# EAGLE library part TPS768*QPWP (library NewSDR)
Texas Instruments Faast Transient Response, 1-A Low-Dropout Voltage Regulators - 20-Pin PWP Package
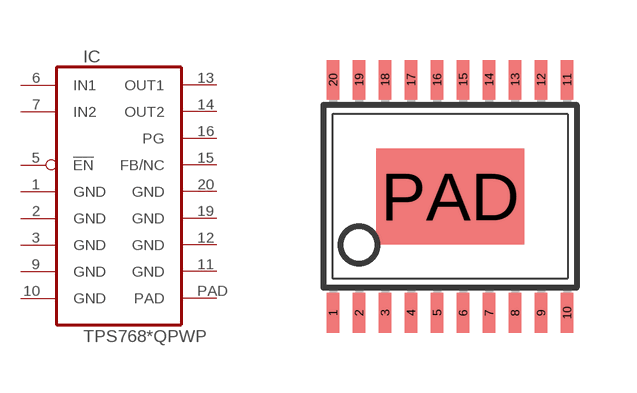
[diagram p65: symbol with the pads of HTSSOP20; footprint HTSSOP20]

Designator prefix IC

## TPS76818QPWP, TPS76833QPWP  [HTSSOP20]
1  GND  pwr
2  GND  pwr
3  GND  pwr
5  !EN  in
6  IN1  pwr
7  IN2  pwr
9  GND  pwr
10  GND  pwr
11  GND  pwr
12  GND  pwr
13  OUT1  pwr
14  OUT2  pwr
15  FB/NC  nc
16  PG  pas
19  GND  pwr
20  GND  pwr
PAD  PAD  pwr

## Footprint HTSSOP20 (pad centres in mm)
TSSOP WITH POWER PAD
smd 0.305 x 0.991: 1 -2.925,-2.918; 2 -2.275,-2.918; 3 -1.625,-2.918; 4 -0.975,-2.918; 5 -0.325,-2.918; 6 0.325,-2.918; 7 0.975,-2.918; 8 1.625,-2.918; 9 2.275,-2.918; 10 2.925,-2.918; 11 2.925,2.918; 12 2.275,2.918; 13 1.625,2.918; 14 0.975,2.918; 15 0.325,2.918; 16 -0.325,2.918; 17 -0.975,2.918; 18 -1.625,2.918; 19 -2.275,2.918; 20 -2.925,2.918
smd 3.7 x 2.4: PAD 0,0